# Altium footprint library voice_launch.PcbLib: 27 footprints (part 1 of 2)
Each footprint in its own frame and in the unit in brackets; x right, y up, seen from the top. Pads: shape width x height; smd on the part's side, far side on the other; paste and mask are expansions set on the pad; w line width, h text height; cw(c..) or ccw(c..) is an arc to the next point about the centre after c.
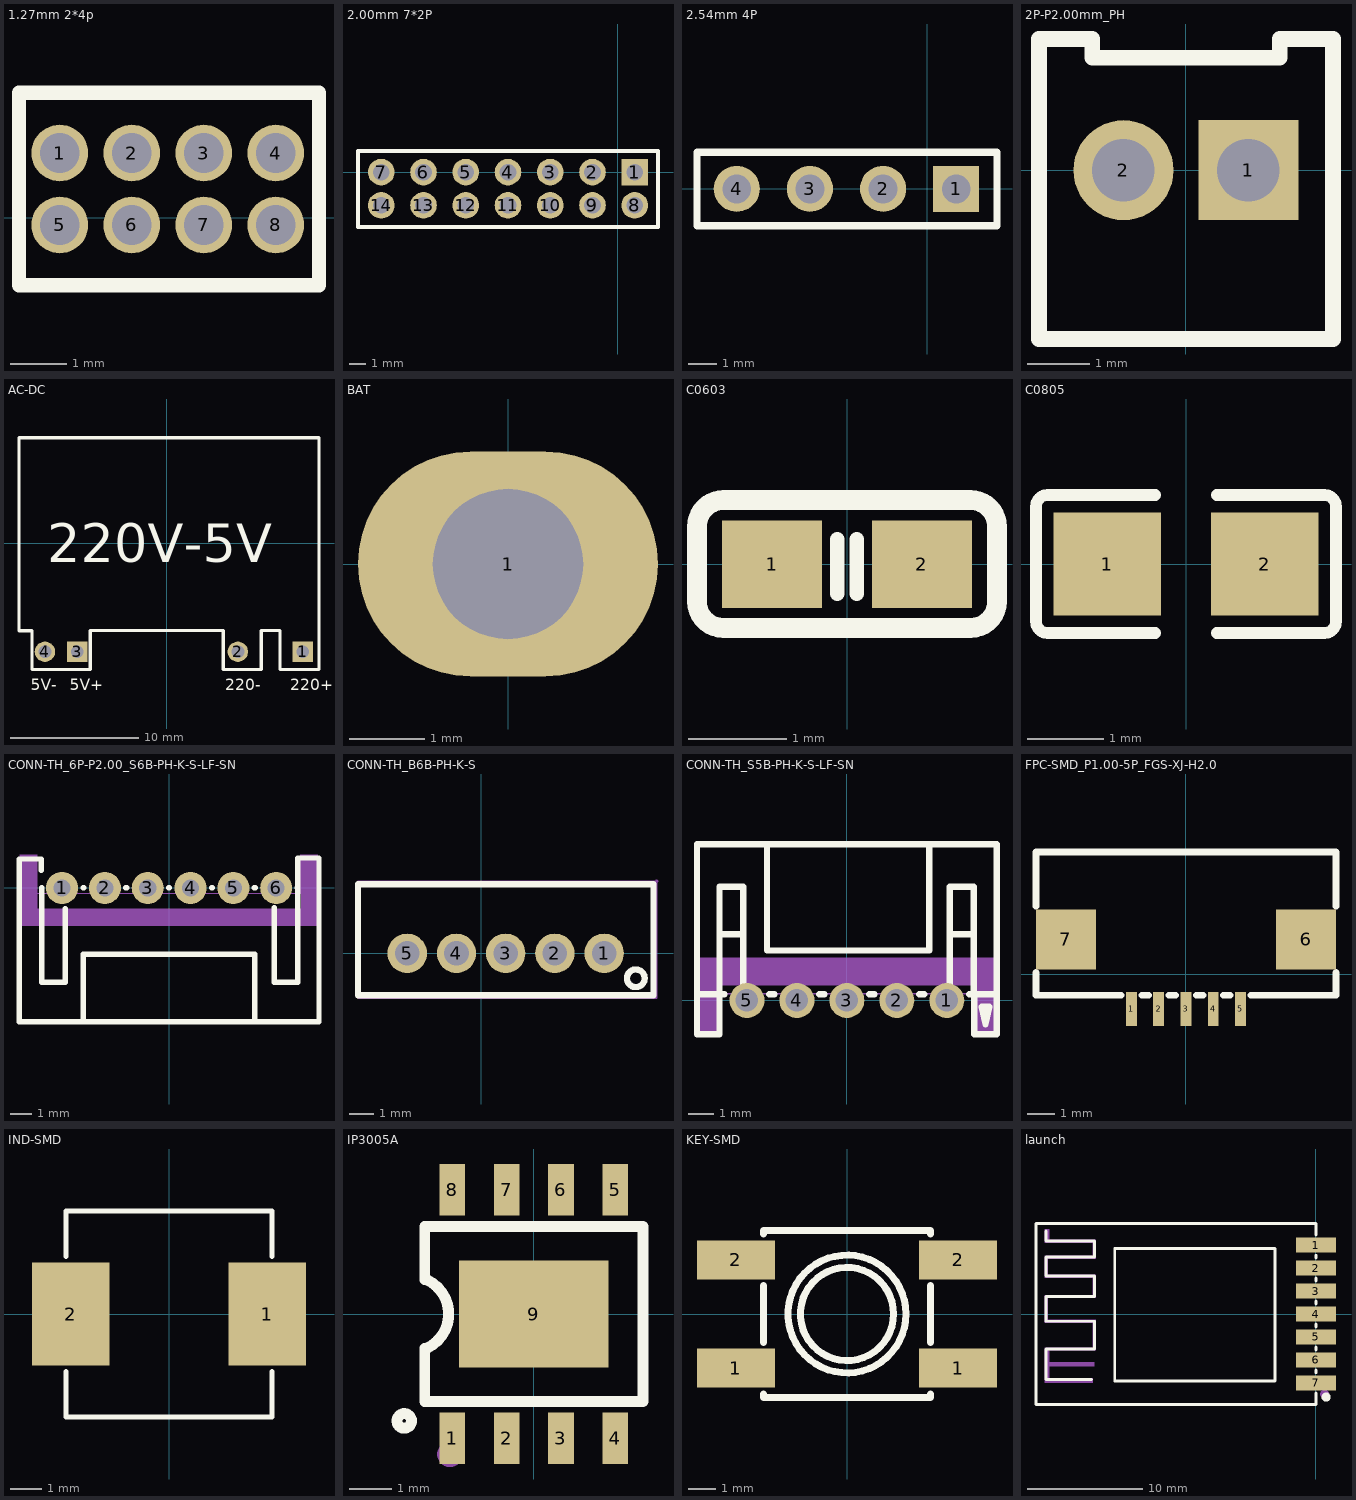
[diagram p0: the footprints below, top view; thin cyan lines are the x and y axes]

## 1.27mm 2*4p [mm]
pads (8):
  round 1 hole 0.7: 1(-20.447,1.143) 2(-19.177,1.143) 3(-17.907,1.143) 4(-16.637,1.143) 5(-20.447,-0.127) 6(-19.177,-0.127) 7(-17.907,-0.127) 8(-16.637,-0.127)
Top Overlay:
  lines w0.254: -21.167,-1.192 -15.875,-1.192 -15.875,2.208 -21.167,2.208 -21.167,1.793 -21.167,-1.192

## 2.00mm 7*2P [mm] "2.00mm 7*2P 端口"
pads (14):
  rect 1.6x1.6 hole 1: 1(1.016,0)
  round 1.6 hole 1: 2(-1.524,0) 3(-4.064,0) 4(-6.604,0) 5(-9.144,0) 6(-11.684,0) 7(-14.224,0) 8(1.016,-2) 9(-1.524,-2) 10(-4.064,-2) 11(-6.604,-2) 12(-9.144,-2) 13(-11.684,-2) 14(-14.224,-2)
Top Overlay:
  lines w0.254: 2.408,1.27 -15.621,1.27 -15.621,-3.302 2.417,-3.302 2.417,1.261

## 2.54mm 4P [mm] "排针"
pads (4):
  rect 1.6x1.6 hole 1: 1(1,0)
  round 1.6 hole 1: 2(-1.54,0) 3(-4.08,0) 4(-6.62,0)
Top Overlay:
  lines w0.254: 2.408,1.27 -8.001,1.27 -8.001,-1.279 2.417,-1.279 2.417,1.261

## 2P-P2.00mm_PH [mm] "C2319"
pads (2):
  rect 1.6x1.6 hole 1: 1(1,0)
  round 1.6 hole 1: 2(-1,0)
Top Overlay:
  lines w0.254: -2.35,-2.7 -2.35,2.1 -1.5,2.1 -1.5,1.8 1.5,1.8 1.5,2.1 2.35,2.1 2.35,-2.7 -2.35,-2.7

## AC-DC [mm]
pads (4):
  rect 1.6x1.6 hole 1: 1(10.668,-8.509) 3(-6.985,-8.509)
  round 1.6 hole 1: 2(5.588,-8.509) 4(-9.525,-8.509)
Top Overlay:
  lines w0.254: -11.557,8.25 -11.557,-6.858 -10.536,-6.858 -10.536,-9.905 -5.982,-9.905 ; -11.557,8.255 11.943,8.255 11.943,-9.9 8.895,-9.9 8.895,-6.853 7.423,-6.853 7.423,-9.9 4.45,-9.9 4.45,-6.853 -5.977,-6.853 -5.977,-9.9
  text "5V-" at -10.643,-11.532 h0.89
  text "5V+" at -7.595,-11.532 h0.89
  text "220-" at 4.597,-11.532 h0.89
  text "220+" at 9.677,-11.532 h0.89
  text "220V-5V" at -9.36,-1.486 h3

## BAT [mm]
pads (1):
  oval 4x3 hole 2: 1(0,0)

## C0603 [mil]
height 170.08
pads (2):
  rect 40x35 smd: 1(-29.92,0) 2(29.92,0)
Top Overlay:
  lines w5.91: -3.94,-11.81 -3.94,9.84 ; 3.94,-11.81 3.94,9.84
  lines w7.87: -60,-15 ccw(c-49.41,-15) -49.41,-25.59 49.41,-25.59 ccw(c49.41,-15) 60,-15 60,15 ccw(c49.41,15) 49.41,25.59 -49.41,25.59 ccw(c-49.41,15) -60,15 -60,-15
3D body "Cap0603.step": height 31.5, standoff 0, extent -31.49,-15.74 31.5,15.76

## C0805 [mm]
pads (2):
  rect 1.41x1.35 smd: 1(-1.03,0) 2(1.03,0)
Top Overlay:
  lines w0.152: -0.401,-0.904 -1.811,-0.904 cw(c-1.811,-0.751) -1.964,-0.751 -1.964,0.751 cw(c-1.811,0.751) -1.811,0.904 -0.401,0.904 ; 0.401,-0.904 1.811,-0.904 ccw(c1.811,-0.751) 1.964,-0.751 1.964,0.751 ccw(c1.811,0.751) 1.811,0.904 0.401,0.904
Top Paste:
  region: -1.675,-0.62 -1.675,0.66 -1.625,0.71 -0.475,0.71 -0.425,0.66 -0.42,0.25 -0.87,0.25 -0.87,-0.2 -0.43,-0.2 -0.425,-0.62 -0.475,-0.67 -1.625,-0.67
  region: 0.475,-0.62 0.475,-0.2 0.92,-0.2 0.92,0.25 0.48,0.25 0.475,0.66 0.525,0.71 1.675,0.71 1.725,0.66 1.725,-0.62 1.675,-0.67 0.525,-0.67
3D body "cap0805.STEP": height 1.3, standoff 0, extent -1,-0.65 1,0.65

## CONN-TH_6P-P2.00_S6B-PH-K-S-LF-SN [mm]
pads (6):
  round 1.5 hole 0.8 mask+0.051: 1(-5,0) 2(-3,0) 3(-1,0) 4(1,0) 5(3,0) 6(5,0)
Top Overlay:
  lines w0.254: -5.969,0.818 -5.969,1.35 -7,1.35 -7,-6.25 7,-6.25 7,1.35 ; -5.95,0 -5.95,-4.4 -4.85,-4.4 -4.86,-0.98 ; -4.019,0 -3.981,0 ; -4,-6.2 -4,-3.1 4,-3.1 4,-6.2 ; -2.019,0 -1.981,0 ; -0.019,0 0.019,0 ; 1.981,0 2.019,0 ; 3.981,0 4.019,0 ; 4.92,-0.93 4.9,-4.4 6,-4.4 6,0 ; 5.981,0 6,0 ; 7,1.397 6,1.397 6,0
Mechanical 6:
  region: 6.15,1.54 6.95,1.54 6.95,-1.76 -6.95,-1.76 -6.95,1.54 -6.15,1.54 -6.15,-0.98 6.16,-0.98
Mechanical 15:
  region: -6.89,-6.25 -6.89,-6.225 -6.925,-6.19 -6.975,-6.19 -7.01,-6.225 -7.01,-6.25 -7.01,-6.275 -6.975,-6.31 -6.925,-6.31 -6.89,-6.275
  region: -4.75,-0.25 -5.25,-0.25 -5.25,0.25 -4.75,0.25
  region: -2.75,-0.25 -3.25,-0.25 -3.25,0.25 -2.75,0.25
  region: -0.75,-0.25 -1.25,-0.25 -1.25,0.25 -0.75,0.25
  region: 1.25,-0.25 0.75,-0.25 0.75,0.25 1.25,0.25
  region: 3.25,-0.25 2.75,-0.25 2.75,0.25 3.25,0.25
  region: 5.25,-0.25 4.75,-0.25 4.75,0.25 5.25,0.25
  lines w0.051: -6.95,-6.25 6.95,-6.25 6.95,1.54 6.15,1.54 6.15,-0.25 -6.15,-0.25 -6.15,1.54 -6.95,1.54 -6.95,-6.25

## CONN-TH_B6B-PH-K-S [mm]
pads (5):
  round 1.6 hole 1 mask+0.051: 1(5,0) 2(3,0) 3(1,0) 4(-1,0) 5(-3,0)
Top Overlay:
  circle w0.254: c6.286,-1.016 r0.359
  lines w0.254: -5,-1.7 7,-1.7 7,2.8 -5,2.8 -5,-1.7
Mechanical 15:
  region: 7.187,2.927 7.187,2.952 7.152,2.987 7.102,2.987 7.067,2.952 7.067,2.927 7.067,2.902 7.102,2.867 7.152,2.867 7.187,2.902
  region: 3.4,0 3.4,0.08 3.339,0.227 3.227,0.339 3.08,0.4 2.92,0.4 2.773,0.339 2.661,0.227 2.6,0.08 2.6,0 2.6,-0.08 2.661,-0.227 2.773,-0.339 2.92,-0.4 3.08,-0.4 3.227,-0.339 3.339,-0.227 3.4,-0.08
  region: 5.4,0 5.4,0.08 5.339,0.227 5.227,0.339 5.08,0.4 4.92,0.4 4.773,0.339 4.661,0.227 4.6,0.08 4.6,0 4.6,-0.08 4.661,-0.227 4.773,-0.339 4.92,-0.4 5.08,-0.4 5.227,-0.339 5.339,-0.227 5.4,-0.08
  region: 1.4,0 1.4,0.08 1.339,0.227 1.227,0.339 1.08,0.4 0.92,0.4 0.773,0.339 0.661,0.227 0.6,0.08 0.6,0 0.6,-0.08 0.661,-0.227 0.773,-0.339 0.92,-0.4 1.08,-0.4 1.227,-0.339 1.339,-0.227 1.4,-0.08
  region: -0.6,0 -0.6,0.08 -0.661,0.227 -0.773,0.339 -0.92,0.4 -1.08,0.4 -1.227,0.339 -1.339,0.227 -1.4,0.08 -1.4,0 -1.4,-0.08 -1.339,-0.227 -1.227,-0.339 -1.08,-0.4 -0.92,-0.4 -0.773,-0.339 -0.661,-0.227 -0.6,-0.08
  region: -2.6,0 -2.6,0.08 -2.661,0.227 -2.773,0.339 -2.92,0.4 -3.08,0.4 -3.227,0.339 -3.339,0.227 -3.4,0.08 -3.4,0 -3.4,-0.08 -3.339,-0.227 -3.227,-0.339 -3.08,-0.4 -2.92,-0.4 -2.773,-0.339 -2.661,-0.227 -2.6,-0.08
  lines w0.051: -5,-1.827 -5,2.927 7.127,2.927 7.127,-1.827 -5,-1.827

## CONN-TH_S5B-PH-K-S-LF-SN [mm]
pads (5):
  round 1.4 hole 0.9 mask+0.051: 1(4,0) 2(2,0) 3(0,0) 4(-2,0) 5(-4,0)
Top Overlay:
  lines w0.254: -5.1,0.25 -5.1,4.55 -4.15,4.55 -4.15,0.25 ; -5.1,2.65 -4.15,2.65 ; -5.1,0.25 -5.1,-1.35 -6,-1.35 -6,0.25 ; -4.897,0.25 -6,0.25 ; -3.2,6.25 -3.2,2 3.3,2 3.3,6.25 ; -3.103,0.25 -2.897,0.25 ; -1.103,0.25 -0.897,0.25 ; 0.897,0.25 1.103,0.25 ; 2.897,0.25 3.103,0.25 ; 4.125,0.25 4.125,4.55 5.075,4.55 5.075,0.25 ; 4.125,2.65 5.075,2.65 ; 4.897,0.25 6,0.25 ; 5.1,0.25 5.1,-1.35 6,-1.35 6,0.25 ; -6,0.25 -6,6.25 6,6.25 6,0.25 ; 5.4,-0.25 5.55,-0.95 5.7,-0.25 5.4,-0.25
Mechanical 6:
  region: -5,1.7 5,1.7 5,0.6 -5,0.6
  region: 5,-1.4 5,1.7 6,1.7 6,-1.4
  region: -6,-1.4 -6,1.7 -5,1.7 -5,-1.4
Mechanical 15:
  region: 3.75,-0.25 4.25,-0.25 4.25,0.3 3.75,0.3
  region: 1.75,-0.25 2.25,-0.25 2.25,0.3 1.75,0.3
  region: -0.25,-0.25 0.25,-0.25 0.25,0.3 -0.25,0.3
  region: -2.25,-0.25 -1.75,-0.25 -1.75,0.3 -2.25,0.3
  region: -4.25,-0.25 -3.75,-0.25 -3.75,0.3 -4.25,0.3
  region: 3.75,0.25 4.25,0.25 4.25,-0.25 3.75,-0.25
  region: 1.75,0.25 2.25,0.25 2.25,-0.25 1.75,-0.25
  region: -0.25,0.25 0.25,0.25 0.25,-0.25 -0.25,-0.25
  region: -2.25,0.25 -1.75,0.25 -1.75,-0.25 -2.25,-0.25
  region: -4.25,0.25 -3.75,0.25 -3.75,-0.25 -4.25,-0.25
  region: 6.01,6.26 6.01,6.285 5.975,6.32 5.925,6.32 5.89,6.285 5.89,6.26 5.89,6.235 5.925,6.2 5.975,6.2 6.01,6.235 6.01,6.26
  lines w0.051: -5.95,-1.34 -5.25,-1.33 -5.25,0.27 5.25,0.27 5.25,-1.34 5.95,-1.34 5.95,6.26 -5.95,6.26 -5.95,-1.34
3D body "3D_PCB1_2023-01-10.step": height 4.5, standoff -3.4, extent -5.951,-1.524 5.95,6.262

## FPC-SMD_P1.00-5P_FGS-XJ-H2.0 [mm]
pads (7):
  rect 0.4x1.25 smd: 1(-2,-1.275) 2(-1.002,-1.273) 3(-0.002,-1.273) 4(0.998,-1.273) 5(1.998,-1.273)
  rect 2.2x2.2 smd: 6(4.4,1.275) 7(-4.4,1.275)
Top Overlay:
  lines w0.254: -5.5,0.062 -5.5,-0.775 -2.381,-0.775 ; -5.5,2.488 -5.5,4.475 5.5,4.475 5.5,2.488 ; -1.619,-0.775 -1.381,-0.775 ; -0.619,-0.775 -0.381,-0.775 ; 0.381,-0.775 0.619,-0.775 ; 1.381,-0.775 1.617,-0.775 ; 2.379,-0.775 5.5,-0.775 5.5,0.062
3D body "FPC_5P_1mm.STEP": height 2, standoff 0, extent -5.449,-1.389 5.449,4.58

## IND-SMD [mm] "IND-SMD"
pads (2):
  rect 2.474x3.32 smd: 1(3.153,0) 2(-3.153,0)
Top Overlay:
  lines w0.152: -3.302,-1.84 -3.302,-3.302 3.302,-3.302 3.302,-1.84 ; -3.302,1.84 -3.302,3.302 3.302,3.302 3.302,1.84
3D body "3D_PCB1_2022-02-28.STEP": height 3.1, standoff 0, extent -3.556,-3.299 3.443,3.299

## IP3005A [mm] "IP3005A"
pads (9):
  rect 0.6x1.2 smd: 1(-1.905,-2.908) 2(-0.635,-2.908) 3(0.635,-2.908) 4(1.905,-2.908) 5(1.905,2.908) 6(0.635,2.908) 7(-0.635,2.908) 8(-1.905,2.908)
  rect 3.5x2.5 smd: 9(0,0)
Top Overlay:
  circle w0.254: c-3.03,-2.5 r0.17
  lines w0.254: -2.55,-0.8 -2.55,-2.05 2.55,-2.05 2.55,2.05 -2.55,2.05 -2.55,0.8 ; -2.5,-0.8 ccw(c-2.875,0) -2.5,0.8
Mechanical 15:
  circle w0.3: c-1.96,-3.28 r0.15
3D body "sop-8.STEP": height 2.1, standoff 0, extent -2.425,-3 2.425,3

## KEY-SMD [mm] "C223741"
pads (4):
  rect 2.8x1.4 smd: 1(-4,-1.95) 1(4,-1.95) 2(-4,1.95) 2(4,1.95)
Top Overlay:
  circle w0.254: c0,0 r1.677
  circle w0.254: c0,0 r2.121
  lines w0.254: -3,-2.881 -3,-3 3,-3 3,-2.881 ; -3,-1.019 -3,1.019 ; -3,2.881 -3,3 3,3 3,2.881 ; 3,-1.019 3,1.019

## launch [mm] "launch"
pads (7):
  rect 3.5x1.3 smd: 1(0,6) 2(0,4) 3(0,2) 4(0,0) 5(0,-2) 6(0,-4) 7(0,-6)
Top Overlay:
  circle w0.4: c0.889,-7.239 r0.2
  lines w0.254: -23.495,7.239 -23.495,6.35 -19.304,6.35 -19.304,4.953 -23.495,4.953 -23.495,3.302 -19.304,3.302 -19.304,1.524 -23.495,1.524 -23.495,-0.635 -19.304,-0.635 -19.304,-3.048 -23.495,-3.048 -23.495,-5.715 -19.558,-5.715 ; 0,-6.881 0,-7.874 -24.384,-7.874 -24.384,7.874 0,7.874 0,6.881 ; 0,-5.119 0,-4.881 ; 0,-3.119 0,-2.881 ; 0,-1.119 0,-0.881 ; 0,0.881 0,1.119 ; 0,2.881 0,3.119 ; 0,4.881 0,5.119 ; -17.526,-5.842 -17.526,5.715 -3.556,5.715 -3.556,-5.842 -17.526,-5.842
Mechanical 15:
  circle w0.4: c0.762,-6.985 r0.2
  region: -19.304,-4.572 -23.241,-4.572 -23.241,-4.191 -19.304,-4.191
  region: -19.558,-5.969 -23.622,-5.969 -23.622,-2.921 -19.431,-2.921 -19.431,-0.762 -23.622,-0.762 -23.622,1.651 -19.431,1.651 -19.431,3.175 -23.622,3.175 -23.622,5.08 -19.431,5.08 -19.431,6.223 -23.622,6.223 -23.622,7.366 -23.241,7.366 -23.241,6.477 -19.177,6.477 -19.177,4.953 -19.177,4.826 -23.368,4.826 -23.368,3.429 -19.177,3.429 -19.177,3.302 -19.177,1.397 -23.368,1.397 -23.368,-0.508 -19.177,-0.508 -19.177,-0.635 -19.177,-3.175 -23.241,-3.175 -23.241,-5.588 -19.431,-5.588 -19.431,-5.969